# EAGLE library part RJ45-TOP (library FansElectronics-Wiznet)
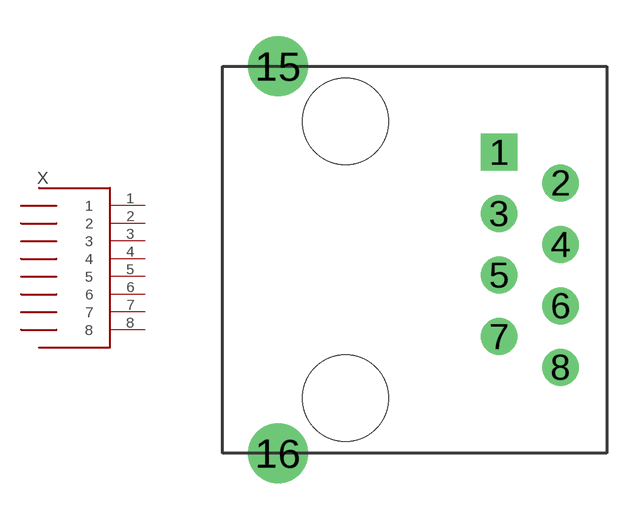
[diagram p3: symbol with the pads of POE-RJ45-TOP; footprint POE-RJ45-TOP]

Designator prefix X

## RJ45-TOP  [POE-RJ45-TOP]
1  1
2  2
3  3
4  4
5  5
6  6
7  7
8  8

## Footprint POE-RJ45-TOP (pad centres in mm)
drill 0.813 pad 1.524 square: 1 2.54,4.445
drill 0.813 pad 1.524: 2 5.08,3.175; 3 2.54,1.905; 4 5.08,0.635; 5 2.54,-0.635; 6 5.08,-1.905; 7 2.54,-3.175; 8 5.08,-4.445
drill 1.651 pad 2.159: 15 -6.604,8.001; 16 -6.604,-8.001
hole 3.556 at -3.81,5.715
hole 3.556 at -3.81,-5.715